# EAGLE library part IROBOT_CREATE_IARC_HOOKUP (library MAAV_Roomba)
0.1" spaced headers
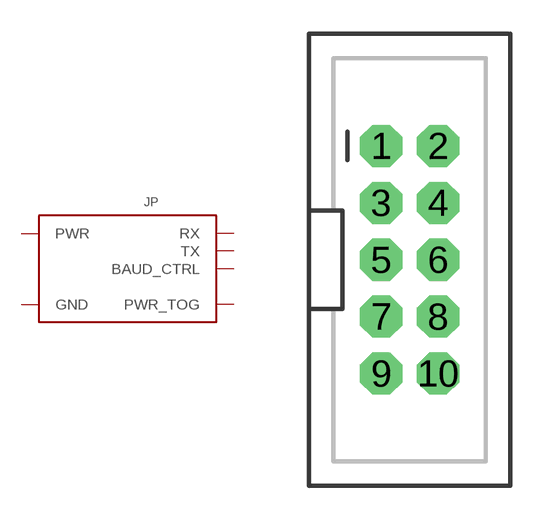
[diagram p2: symbol with the pads of 2X5-SHROUDED; footprint 2X5-SHROUDED]

Designator prefix JP

## IROBOT_CREATE_IARC_HOOKUP  [2X5-SHROUDED]
1  TX
2  GND  pwr
3  BAUD_CTRL
4  RX
5  PWR_TOG
6  PWR  pwr

## Footprint 2X5-SHROUDED (pad centres in mm)
drill 1.016 pad 1.88 octagon: 1 -1.27,5.08; 2 1.27,5.08; 3 -1.27,2.54; 4 1.27,2.54; 5 -1.27,0; 6 1.27,0; 7 -1.27,-2.54; 8 1.27,-2.54; 9 -1.27,-5.08; 10 1.27,-5.08